# EAGLE library part ATTINY85/45 (library Jordan ICs)
Attiny 85/45 This chip's pin assignments are based on the arduino ide. Its pin descriptions are as follows: P0: PWM, AREF, MOSI P1: PWM, MISO P2: ADC1, SCK P3: ADC3 P4: ADC2
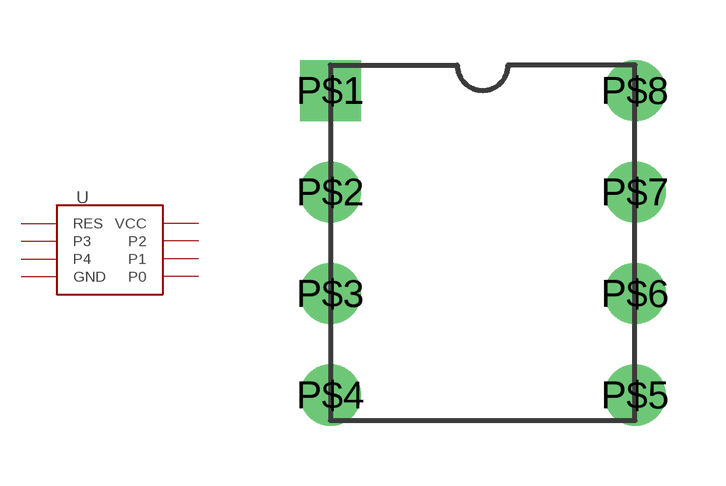
[diagram p1: symbol with the pads of DIP8; footprint DIP8]

Designator prefix -

## ATTINY85/45  [DIP8]
P$1  RES
P$2  P3
P$3  P4
P$4  GND
P$5  P0
P$6  P1
P$7  P2
P$8  VCC

## Footprint DIP8 (pad centres in mm)
drill 1.02 square: P$1 -3.81,3.81
drill 1.02: P$2 -3.81,1.27; P$3 -3.81,-1.27; P$4 -3.81,-3.81; P$5 3.81,-3.81; P$6 3.81,-1.27; P$7 3.81,1.27; P$8 3.81,3.81